# Altium footprint library 自己的封装图库.PcbLib: 60 footprints (part 4 of 4)
Each footprint in its own frame and in the unit in brackets; x right, y up, seen from the top. Pads: shape width x height; smd on the part's side, far side on the other; paste and mask are expansions set on the pad; w line width, h text height; cw(c..) or ccw(c..) is an arc to the next point about the centre after c.
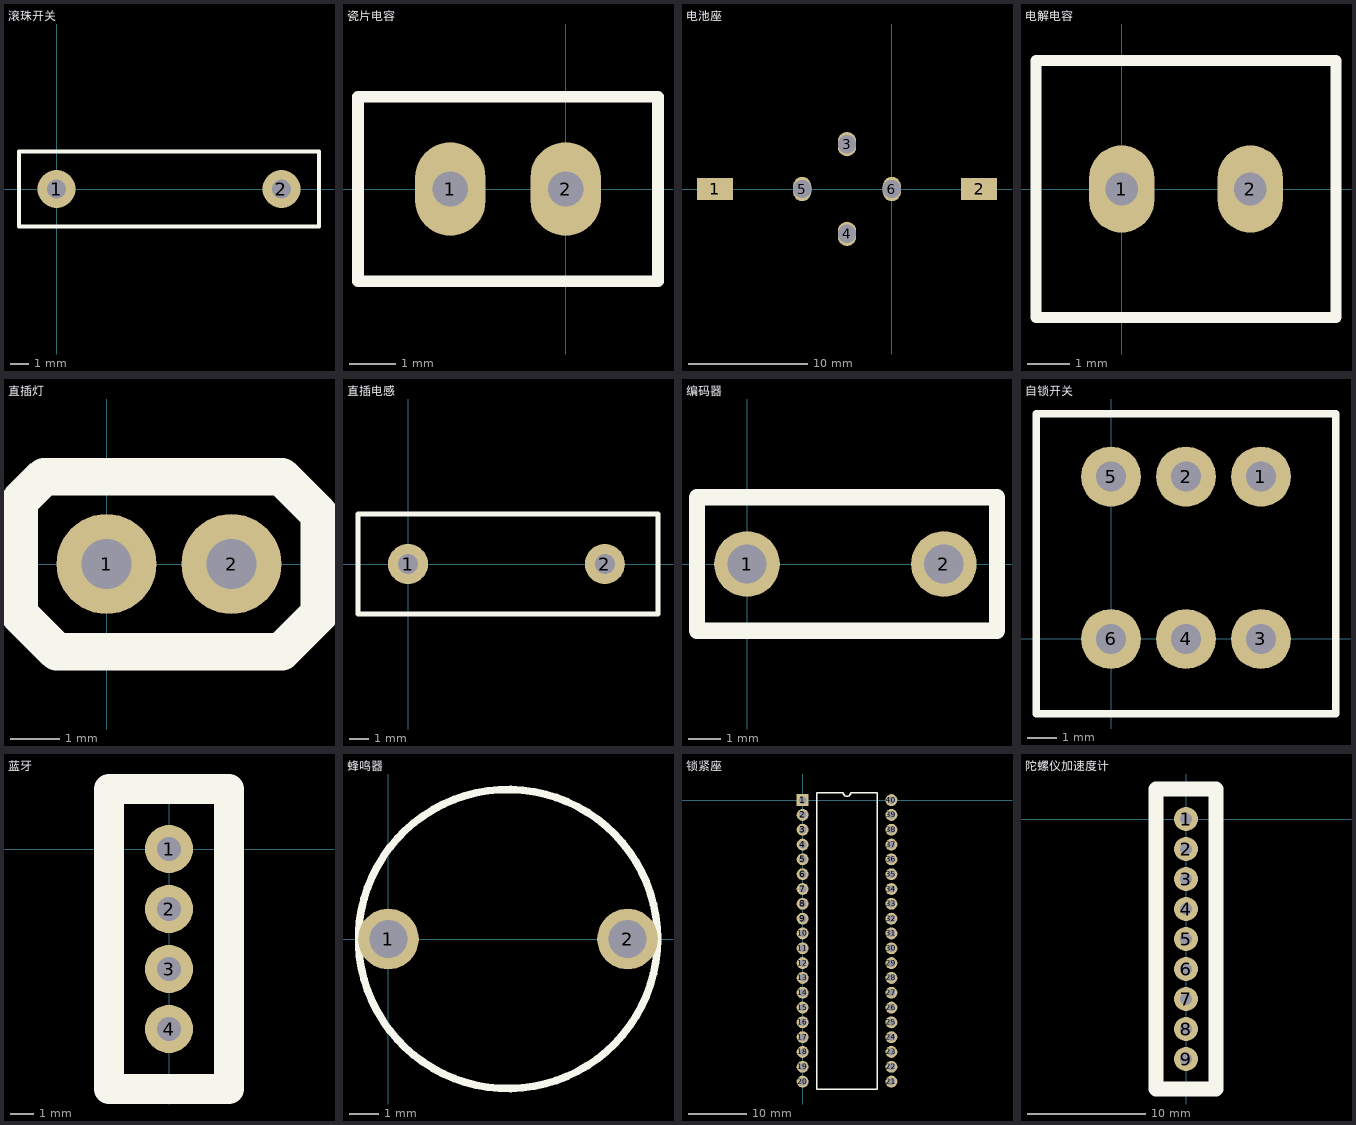
[diagram p3: the footprints below, top view; thin cyan lines are the x and y axes]

## 滚珠开关 [mil]
pads (2):
  round 80 hole 40: 1(0,0) 2(472.44,0)
Top Overlay:
  lines w7.87: -78.74,-78.74 -78.74,78.74 0,78.74 551.18,78.74 551.18,-78.74 -78.74,-78.74

## 瓷片电容 [mil]
pads (2):
  oval 60x80 hole 30: 1(-98.43,0) 2(0,0)
Top Overlay:
  lines w10: -177.17,-78.74 -177.17,78.74 -98.43,78.74 78.74,78.74 78.74,-78.74 -177.17,-78.74

## 电池座 [mil]
pads (6):
  rect 118.11x70.87 smd: 1(-582.68,0) 2(287.4,0)
  oval 60x80 hole 60: 3(-147.64,147.64) 4(-147.64,-147.64) 5(-295.28,0) 6(0,0)

## 电解电容 [mil]
pads (2):
  oval 60x80 hole 30 paste+0: 1(0,0)
  oval 60x80 hole 30: 2(118.11,0)
Top Overlay:
  lines w10: 0,118.11 196.85,118.11 196.85,-118.11 -78.74,-118.11 -78.74,118.11 39.37,118.11

## 直插灯 [mil]
pads (2):
  round 80 hole 40: 1(0,0) 2(100,0)
Top Overlay:
  lines w30: -70,-40 -40,-70 140,-70 170,-40 170,40 160,50 150,60 140,70 -50,70 -70,50 -70,-40

## 直插电感 [mil]
pads (2):
  round 80 hole 40: 1(0,0) 2(393.7,0)
Top Overlay:
  lines w10: -100,-100 500,-100 500,100 -100,100 -100,0 -100,-100

## 编码器 [mm]
pads (2):
  round 2 hole 1.2: 1(0,0) 2(6,0)
Top Overlay:
  lines w0.5: -1.524,-2.032 -1.524,2.032 7.62,2.032 7.62,-2.032 -1.524,-2.032

## 自锁开关 [mil]
pads (6):
  round 80 hole 40: 1(200,216.54) 2(100,216.54) 3(200,0) 4(100,0) 5(0,216.54) 6(0,0)
Top Overlay:
  lines w10: -100,-100 -100,300 0,300 300,300 300,-100 -100,-100

## 蓝牙 [mil]
pads (4):
  round 80 hole 40: 1(0,0) 2(0,-100) 3(0,-200) 4(0,-300)
Top Overlay:
  lines w50: -100,-400 -100,100 100,100 100,-400 -100,-400

## 蜂鸣器 [mil]
pads (2):
  round 80 hole 50: 1(0,0) 2(314.96,0)
Top Overlay:
  circle w10: c157.48,0 r196.85

## 锁紧座 [mil]
pads (40):
  rect 80x80 hole 50: 1(0,0)
  round 80 hole 50: 2(0,-100) 3(0,-200) 4(0,-300) 5(0,-400) 6(0,-500) 7(0,-600) 8(0,-700) 9(0,-800) 10(0,-900) 11(0,-1000) 12(0,-1100) 13(0,-1200) 14(0,-1300) 15(0,-1400) 16(0,-1500) 17(0,-1600) 18(0,-1700) 19(0,-1800) 20(0,-1900) 21(600,-1900) 22(600,-1800) 23(600,-1700) 24(600,-1600) 25(600,-1500) 26(600,-1400) 27(600,-1300) 28(600,-1200) 29(600,-1100) 30(600,-1000) 31(600,-900) 32(600,-800) 33(600,-700) 34(600,-600) 35(600,-500) 36(600,-400) 37(600,-300) 38(600,-200) 39(600,-100) 40(600,0)
Top Overlay:
  lines w10: 95,-1950 505,-1950 505,50 325,50 cw(c300,50) 275,50 95,50 95,-1950

## 陀螺仪加速度计 [mil]
pads (9):
  round 80 hole 40: 1(0,0) 2(0,-100) 3(0,-200) 4(0,-300) 5(0,-400) 6(0,-500) 7(0,-600) 8(0,-700) 9(0,-800)
Top Overlay:
  lines w50: -100,-900 -100,100 100,100 100,-900 -100,-900